# Altium footprint library Vowstar_Switch.PcbLib: 19 footprints (part 1 of 2)
Each footprint in its own frame and in the unit in brackets; x right, y up, seen from the top. Pads: shape width x height; smd on the part's side, far side on the other; paste and mask are expansions set on the pad; w line width, h text height; cw(c..) or ccw(c..) is an arc to the next point about the centre after c.
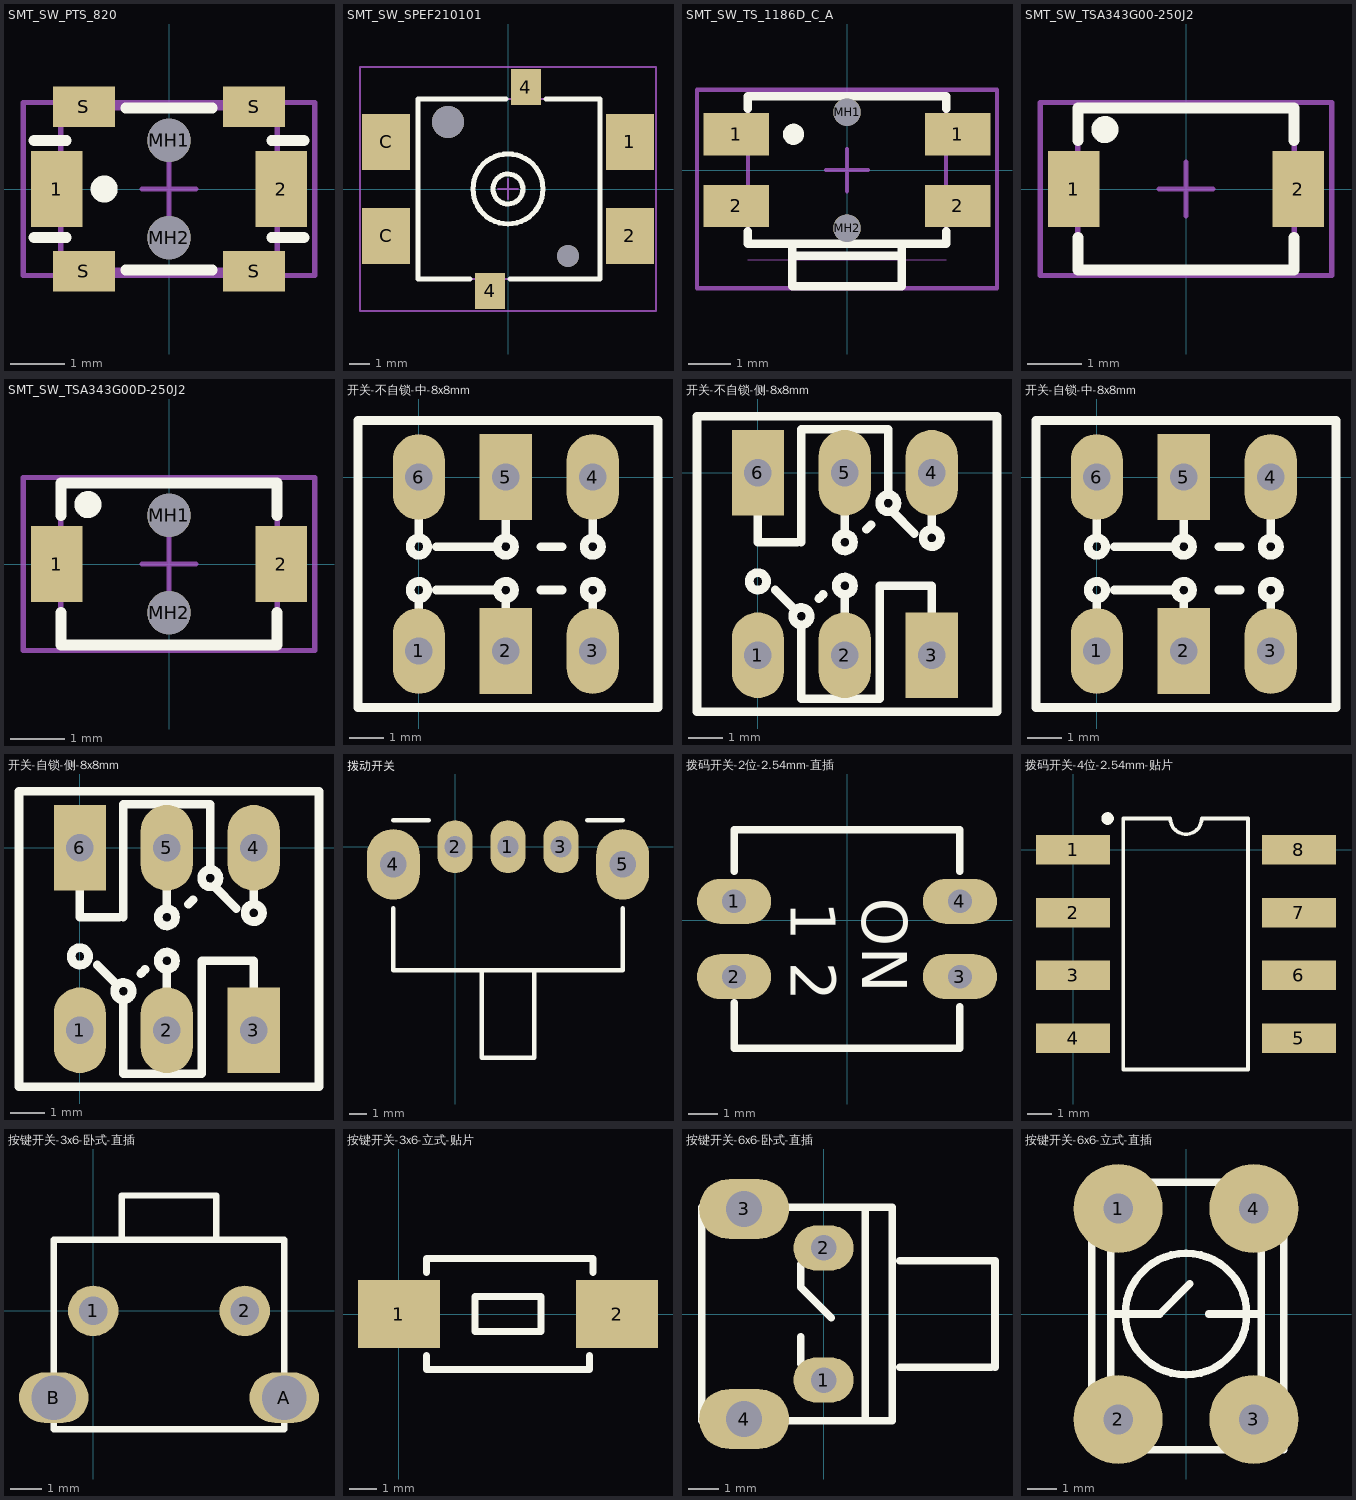
[diagram p0: the footprints below, top view; thin cyan lines are the x and y axes]

## SMT_SW_PTS_820 [mm] "SMT Tactile Switch PTS 820 Series"
height 2
pads (8):
  rect 0.95x1.4 smd: 1(-2.075,0) 2(2.075,0)
  round 0.8 hole 0.8 unplated: MH1(0,0.9) MH2(0,-0.9)
  rect 1.15x0.75 smd: S(-1.575,-1.525) S(-1.575,1.525) S(1.575,-1.525) S(1.575,1.525)
Top Overlay:
  circle w0.25: c-1.2,0 r0.125
  lines w0.2: -2.5,-0.9 -1.9,-0.9 ; -2.5,0.9 -1.9,0.9 ; -0.8,-1.5 0.8,-1.5 ; -0.8,1.5 0.8,1.5 ; 1.9,-0.9 2.5,-0.9 ; 1.9,0.9 2.5,0.9
Mechanical 13:
  lines w0.1: -2,-1.5 2,-1.5 2,1.5 -2,1.5 -2,-1.5
Mechanical 15:
  lines w0.1: -0.5,0 0.5,0 ; 0,-0.5 0,0.5 ; -2.7,-1.6 2.7,-1.6 2.7,1.6 -2.7,1.6 -2.7,-1.6
3D body "SMT Tactile Switch PTS-820.STEP": height 2.05, standoff -0.5, extent -2.25,-1.55 2.25,1.55

## SMT_SW_SPEF210101 [mm] "ALPS Switch 1.5mm-travel Vertical Type SPEF Series SPEF210101"
height 14.6
pads (8):
  rect 2.4x2.8 smd: 1(6.1,2.352) 2(6.1,-2.348) C(-6.1,-2.347) C(-6.1,2.352)
  rect 1.5x1.8 smd: 4(-0.895,-5.093) 4(0.897,5.093)
  round 1.6 hole 1.6 unplated: ""(-3,3.352)
  round 1.1 hole 1.1 unplated: ""(3,-3.348)
Top Overlay:
  circle w0.254: c0,0.002 r0.749
  circle w0.254: c0,0.002 r1.75
  lines w0.254: -1.898,-4.498 -4.5,-4.498 -4.5,4.502 -0.102,4.502 ; 0.098,-4.498 4.6,-4.498 4.6,4.502 1.902,4.502
Mechanical 13:
  lines w0.1: -4.5,-4.5 -4.5,4.5 4.6,4.5 4.6,-4.5 -4.5,-4.5
Mechanical 15:
  lines w0.1: -0.5,0 0.5,0 ; 0,-0.5 0,0.5 ; -7.4,-6.1 -7.4,6.1 7.4,6.1 7.4,-6.1 -7.4,-6.1
3D body "SPEF210101.STEP": height 14.6, standoff -1.3, extent -6.8,-5.645 6.8,5.655

## SMT_SW_TS_1186D_C_A [mm] "SMT Side tap switch XKB TS-1186D-C-A W4.7xD3.5xH1.65"
height 1.65
pads (6):
  rect 1.55x1 smd: 1(-2.625,0.85) 1(2.625,0.85) 2(-2.625,-0.85) 2(2.625,-0.85)
  round 0.65 hole 0.65 unplated: MH1(0,1.375) MH2(0,-1.375)
Top Overlay:
  circle w0.25: c-1.27,0.85 r0.125
  lines w0.2: -2.35,-1.45 -2.35,-1.75 2.35,-1.75 2.35,-1.45 ; -2.35,1.45 -2.35,1.75 2.35,1.75 2.35,1.45 ; -1.3,-2.025 1.3,-2.025 ; -1.3,-1.75 -1.3,-2.75 1.3,-2.75 1.3,-1.75
Mechanical 13:
  lines w0.025: -2.35,-2.125 2.35,-2.125
  lines w0.1: -1.3,-1.75 -1.3,-2.75 1.3,-2.75 1.3,-1.75 ; -2.35,-1.75 2.35,-1.75 2.35,1.75 -2.35,1.75 -2.35,-1.75
  text "PCB Edge" at -2.4,-2.05 h0.13
Mechanical 15:
  lines w0.1: -0.5,0 0.5,0 ; 0,-0.5 0,0.5 ; -3.556,-2.8 3.556,-2.8 3.556,1.905 -3.556,1.905 -3.556,-2.8
3D body "SMT Tactile Switch TS-015.STEP": height 1.65, standoff -0.55, extent -3.1,-2.75 3.1,1.8

## SMT_SW_TSA343G00-250J2 [mm] "SMT Tactile Switch TSA343G00D-250J2 Series With no hole"
height 2
pads (2):
  rect 0.95x1.4 smd: 1(-2.075,0) 2(2.075,0)
Top Overlay:
  circle w0.25: c-1.5,1.1 r0.125
  lines w0.2: -2,-0.9 -2,-1.5 2,-1.5 2,-0.9 ; -2,0.9 -2,1.5 2,1.5 2,0.9
Mechanical 13:
  lines w0.1: -2,-1.5 2,-1.5 2,1.5 -2,1.5 -2,-1.5
Mechanical 15:
  lines w0.1: -0.5,0 0.5,0 ; 0,-0.5 0,0.5 ; -2.7,-1.6 2.7,-1.6 2.7,1.6 -2.7,1.6 -2.7,-1.6
3D body "SMT Tactile Switch PTS-820.STEP": height 2.05, standoff -0.5, extent -2.25,-1.55 2.25,1.55

## SMT_SW_TSA343G00D-250J2 [mm] "SMT Tactile Switch TSA343G00D-250J2 Series With hole"
height 2
pads (4):
  rect 0.95x1.4 smd: 1(-2.075,0) 2(2.075,0)
  round 0.8 hole 0.8 unplated: MH1(0,0.9) MH2(0,-0.9)
Top Overlay:
  circle w0.25: c-1.5,1.1 r0.125
  lines w0.2: -2,-0.9 -2,-1.5 2,-1.5 2,-0.9 ; -2,0.9 -2,1.5 2,1.5 2,0.9
Mechanical 13:
  lines w0.1: -2,-1.5 2,-1.5 2,1.5 -2,1.5 -2,-1.5
Mechanical 15:
  lines w0.1: -0.5,0 0.5,0 ; 0,-0.5 0,0.5 ; -2.7,-1.6 2.7,-1.6 2.7,1.6 -2.7,1.6 -2.7,-1.6
3D body "SMT Tactile Switch PTS-820.STEP": height 2.05, standoff -0.5, extent -2.25,-1.55 2.25,1.55

## 开关-不自锁-中-8x8mm [mm] "开关-不自锁-中-8x8mm"
height 15
pads (6):
  oval 1.524x2.5 hole 0.8: 1(0,-5.08) 3(5.08,-5.08) 4(5.08,0) 6(0,0)
  rect 1.524x2.5 hole 0.8: 2(2.54,-5.08) 5(2.54,0)
Top Overlay:
  circle w0.254: c5.08,-3.302 r0.254
  circle w0.254: c5.08,-2.032 r0.254
  circle w0.254: c0,-3.302 r0.254
  circle w0.254: c0,-2.032 r0.254
  circle w0.254: c2.54,-2.032 r0.254
  circle w0.254: c2.54,-3.302 r0.254
  lines w0.254: 0,-5.08 0,-3.556 ; 0,-1.651 0,0 ; 0.508,-3.302 2.286,-3.302 ; 0.508,-2.032 2.286,-2.032 ; 2.54,-5.08 2.54,-3.556 ; 2.54,-1.651 2.54,0 ; 3.556,-3.302 4.191,-3.302 ; 3.556,-2.032 4.191,-2.032 ; 5.08,-5.207 5.08,-3.556 ; 5.08,-1.651 5.08,0 ; -1.778,-6.731 6.985,-6.731 6.985,1.651 -1.778,1.651 -1.778,-6.731
3D body: height 0, standoff -3, extent -0.254,-5.334 0.254,-4.826
3D body: height 0, standoff -3, extent 2.286,-5.334 2.794,-4.826
3D body: height 0, standoff -3, extent 4.826,-5.334 5.334,-4.826
3D body: height 0, standoff -3, extent -0.254,-0.254 0.254,0.254
3D body: height 0, standoff -3, extent 2.286,-0.254 2.794,0.254
3D body: height 0, standoff -3, extent 4.826,-0.254 5.334,0.254
3D body: height 14, standoff 11, extent 1.651,-4.572 3.175,-0.635
3D body: height 11, standoff 9, extent 0.381,-4.572 4.699,-0.635
3D body: height 5, standoff 0, extent -1.778,-6.731 6.985,1.651
3D body: height 9, standoff 5, extent -1.778,-6.731 6.985,1.651

## 开关-不自锁-侧-8x8mm [mm] "开关-不自锁-侧-8x8mm"
height 15
pads (6):
  oval 1.524x2.5 hole 0.8: 1(0,-5.334) 2(2.54,-5.334) 4(5.08,0) 5(2.54,0)
  rect 1.524x2.5 hole 0.8: 3(5.08,-5.334) 6(0,0)
Top Overlay:
  circle w0.254: c0,-3.175 r0.254
  circle w0.254: c5.08,-1.905 r0.254
  circle w0.254: c1.27,-4.191 r0.254
  circle w0.254: c3.81,-0.889 r0.254
  circle w0.254: c2.54,-2.032 r0.254
  circle w0.254: c2.54,-3.302 r0.254
  lines w0.254: 0,0 0,-2.032 1.143,-2.032 ; 0.508,-3.429 1.016,-3.937 ; 1.27,-4.445 1.27,-6.604 3.556,-6.604 3.556,-3.302 5.08,-3.302 5.08,-5.207 ; 1.27,-2.032 1.27,1.27 3.81,1.27 3.81,-0.635 ; 1.778,-3.683 1.905,-3.556 ; 2.54,-5.08 2.54,-3.556 ; 2.54,-1.651 2.54,0 ; 3.175,-1.651 3.302,-1.524 ; 3.937,-1.143 4.572,-1.778 ; 5.08,-1.651 5.08,0 ; -1.778,-6.985 6.985,-6.985 6.985,1.651 -1.778,1.651 -1.778,-6.985
3D body: height 0, standoff -3, extent -0.254,-5.334 0.254,-4.826
3D body: height 0, standoff -3, extent 2.286,-5.334 2.794,-4.826
3D body: height 0, standoff -3, extent 4.826,-5.334 5.334,-4.826
3D body: height 0, standoff -3, extent -0.254,-0.254 0.254,0.254
3D body: height 0, standoff -3, extent 2.286,-0.254 2.794,0.254
3D body: height 0, standoff -3, extent 4.826,-0.254 5.334,0.254
3D body: height 14, standoff 11, extent 1.651,-4.572 3.175,-0.635
3D body: height 11, standoff 9, extent 0.381,-4.572 4.699,-0.635
3D body: height 9, standoff 5, extent -1.778,-6.985 6.985,1.651
3D body: height 5, standoff 0, extent -1.778,-6.985 6.985,1.651

## 开关-自锁-中-8x8mm [mm] "开关-自锁-中-8x8mm"
height 15
pads (6):
  oval 1.524x2.5 hole 0.8: 1(0,-5.08) 3(5.08,-5.08) 4(5.08,0) 6(0,0)
  rect 1.524x2.5 hole 0.8: 2(2.54,-5.08) 5(2.54,0)
Top Overlay:
  circle w0.254: c2.54,-3.302 r0.254
  circle w0.254: c2.54,-2.032 r0.254
  circle w0.254: c0,-2.032 r0.254
  circle w0.254: c0,-3.302 r0.254
  circle w0.254: c5.08,-2.032 r0.254
  circle w0.254: c5.08,-3.302 r0.254
  lines w0.254: 0,-5.08 0,-3.556 ; 0,-1.651 0,0 ; 0.508,-3.302 2.286,-3.302 ; 0.508,-2.032 2.286,-2.032 ; 2.54,-5.08 2.54,-3.556 ; 2.54,-1.651 2.54,0 ; 3.556,-3.302 4.191,-3.302 ; 3.556,-2.032 4.191,-2.032 ; 5.08,-5.207 5.08,-3.556 ; 5.08,-1.651 5.08,0 ; -1.778,-6.731 -1.778,1.651 6.985,1.651 6.985,-6.731 -1.778,-6.731
3D body: height 0, standoff -3, extent 4.826,-0.254 5.334,0.254
3D body: height 0, standoff -3, extent 2.286,-0.254 2.794,0.254
3D body: height 0, standoff -3, extent -0.254,-0.254 0.254,0.254
3D body: height 0, standoff -3, extent 4.826,-5.334 5.334,-4.826
3D body: height 0, standoff -3, extent 2.286,-5.334 2.794,-4.826
3D body: height 0, standoff -3, extent -0.254,-5.334 0.254,-4.826
3D body: height 5, standoff 0, extent -1.778,-6.731 6.985,1.651
3D body: height 9, standoff 5, extent -1.778,-6.731 6.985,1.651
3D body: height 11, standoff 9, extent 0.381,-4.572 4.699,-0.635
3D body: height 14, standoff 11, extent 1.651,-4.572 3.175,-0.635

## 开关-自锁-侧-8x8mm [mm] "开关-自锁-侧-8x8mm"
height 15
pads (6):
  oval 1.524x2.5 hole 0.8: 1(0,-5.334) 2(2.54,-5.334) 4(5.08,0) 5(2.54,0)
  rect 1.524x2.5 hole 0.8: 3(5.08,-5.334) 6(0,0)
Top Overlay:
  circle w0.254: c2.54,-3.302 r0.254
  circle w0.254: c2.54,-2.032 r0.254
  circle w0.254: c3.81,-0.889 r0.254
  circle w0.254: c1.27,-4.191 r0.254
  circle w0.254: c5.08,-1.905 r0.254
  circle w0.254: c0,-3.175 r0.254
  lines w0.254: 0,0 0,-2.032 1.143,-2.032 ; 0.508,-3.429 1.016,-3.937 ; 1.27,-4.445 1.27,-6.604 3.556,-6.604 3.556,-3.302 5.08,-3.302 5.08,-5.207 ; 1.27,-2.032 1.27,1.27 3.81,1.27 3.81,-0.635 ; 1.778,-3.683 1.905,-3.556 ; 2.54,-5.08 2.54,-3.556 ; 2.54,-1.651 2.54,0 ; 3.175,-1.651 3.302,-1.524 ; 3.937,-1.143 4.572,-1.778 ; 5.08,-1.651 5.08,0 ; -1.778,-6.985 -1.778,1.651 6.985,1.651 6.985,-6.985 -1.778,-6.985
3D body: height 0, standoff -3, extent 4.826,-0.254 5.334,0.254
3D body: height 0, standoff -3, extent 2.286,-0.254 2.794,0.254
3D body: height 0, standoff -3, extent -0.254,-0.254 0.254,0.254
3D body: height 0, standoff -3, extent 4.826,-5.334 5.334,-4.826
3D body: height 0, standoff -3, extent 2.286,-5.334 2.794,-4.826
3D body: height 0, standoff -3, extent -0.254,-5.334 0.254,-4.826
3D body: height 11, standoff 9, extent 0.381,-4.572 4.699,-0.635
3D body: height 5, standoff 0, extent -1.778,-6.985 6.985,1.651
3D body: height 9, standoff 5, extent -1.778,-6.985 6.985,1.651
3D body: height 14, standoff 11, extent 1.651,-4.572 3.175,-0.635

## 拨动开关 [mm]
pads (5):
  oval 2x3 hole 1.2: 1(2.996,-0.008) 2(-0.004,-0.008) 3(5.996,-0.008)
  oval 3x4 hole 1.5: 4(-3.504,-1.008) 5(9.496,-1.008)
Top Overlay:
  lines w0.254: -3.504,-3.508 -3.504,-7.008 9.496,-7.008 9.496,-3.508 ; -3.504,1.492 -1.504,1.492 ; 1.496,-7.008 1.496,-11.968 4.496,-11.968 4.496,-7.008 ; 7.496,1.492 9.496,1.492

## 拨码开关-2位-2.54mm-直插 [mm] "拨码开关-2位-2.54mm-直插"
pads (4):
  oval 2.5x1.524 hole 0.8: 1(-3.81,0.635) 2(-3.81,-1.905) 3(3.81,-1.905) 4(3.81,0.635)
Top Overlay:
  lines w0.254: -3.81,-2.794 -3.81,-4.318 3.81,-4.318 3.81,-2.921 ; -3.81,1.651 -3.81,3.048 3.81,3.048 3.81,1.651
  text "2" at -1.905,-1.397 h1.52
  text "1" at -1.905,0.635 h1.52
  text "ON" at 0.508,0.762 h1.52
3D body "User Library-DIPSWITCH-2x2.54.step": height 6.9, standoff -3.2, extent -4.978,-3.933 5.182,2.667

## 拨码开关-4位-2.54mm-贴片 [mm] "拨码开关-4位-2.54mm-贴片"
pads (8):
  rect 3x1.2 smd: 1(0,0) 2(0,-2.54) 3(0,-5.08) 4(0,-7.62) 5(9.144,-7.62) 6(9.144,-5.08) 7(9.144,-2.54) 8(9.144,0)
Top Overlay:
  circle w0.254: c1.397,1.27 r0.127
  lines w0.15: 2.031,-8.89 7.08,-8.89 7.08,1.27 5.207,1.27 cw(c4.572,1.27) 3.937,1.27 2.031,1.27 2.031,-8.89
3D body "User Library-DIP-switch_a6sn-4101.step": height 4.55, standoff 0, extent -0.078,-9.86 9.222,2.24

## 按键开关-3x6-卧式-直插 [mm] "按键开关-3x6-卧式-直插"
pads (4):
  round 1.6 hole 0.9: 1(0,0) 2(4.8,0)
  oval 2.2x1.6 hole 1.4: A(6.05,-2.75) B(-1.25,-2.75)
Top Overlay:
  lines w0.2: 0.9,2.25 0.9,3.65 3.9,3.65 3.9,2.25 ; -1.25,-3.75 -1.25,2.25 6.05,2.25 6.05,-3.75 -1.25,-3.75

## 按键开关-3x6-立式-贴片 [mm] "按键开关-3x6-立式-贴片"
pads (2):
  rect 3x2.5 smd: 1(0,0) 2(8.001,0)
Top Overlay:
  lines w0.254: 1.016,-1.524 1.016,-2.032 6.985,-2.032 6.985,-1.524 ; 1.016,1.524 1.016,2.032 7.112,2.032 7.112,1.524 ; 2.794,-0.635 2.794,0.635 5.207,0.635 5.207,-0.635 2.794,-0.635
3D body "User Library-立式贴片小按键.step": height 4.25, standoff -1.05, extent 0,-1.778 8,1.722

## 按键开关-6x6-卧式-直插 [mm] "按键开关-6x6-卧式-直插"
height 7.62
pads (4):
  oval 2x1.5 hole 0.85: 1(0,-2.2) 2(0,2.2)
  oval 3x2 hole 1.2: 3(-2.65,3.5) 4(-2.65,-3.5)
Top Overlay:
  lines w0.254: -0.762,-1.651 -0.762,-0.762 ; -0.762,1.651 -0.762,0.889 0.254,-0.127 ; 1.397,-3.556 1.397,3.556 ; 2.54,-1.778 5.588,-1.778 ; 2.54,1.778 5.715,1.778 5.715,-1.778 ; -4.064,-3.556 2.286,-3.556 2.286,3.556 -4.064,3.556 -4.064,-3.556
3D body "User Library-Alps TACT SKHHLWA010 Horizontal Switch.step": height 7.37, standoff -3.5, extent -4.128,-4.181 5.842,4.181

## 按键开关-6x6-立式-直插 [mm] "按键开关-6x6-立式-直插"
height 7.62
pads (4):
  round 3 hole 1: 1(-2.286,3.556) 2(-2.286,-3.556) 3(2.286,-3.556) 4(2.286,3.556)
Top Overlay:
  circle w0.254: c0,0 r2.048
  lines w0.254: -2.54,-2.286 -2.54,2.286 ; -2.54,0 -0.889,0 0.127,1.016 ; 0.762,0 2.54,0 ; 2.54,-2.286 2.54,2.286 ; -3.175,-4.572 3.302,-4.572 3.302,4.445 -3.175,4.445 -3.175,-4.572
3D body "User Library-按键开关-直插.step": height 7, standoff -3.51, extent -2.921,-4.026 3.069,3.772